# Altium footprint library 151033RS03000.PcbLib: 1 footprints
Each footprint in its own frame and in the unit in brackets; x right, y up, seen from the top. Pads: shape width x height; smd on the part's side, far side on the other; paste and mask are expansions set on the pad; w line width, h text height; cw(c..) or ccw(c..) is an arc to the next point about the centre after c.
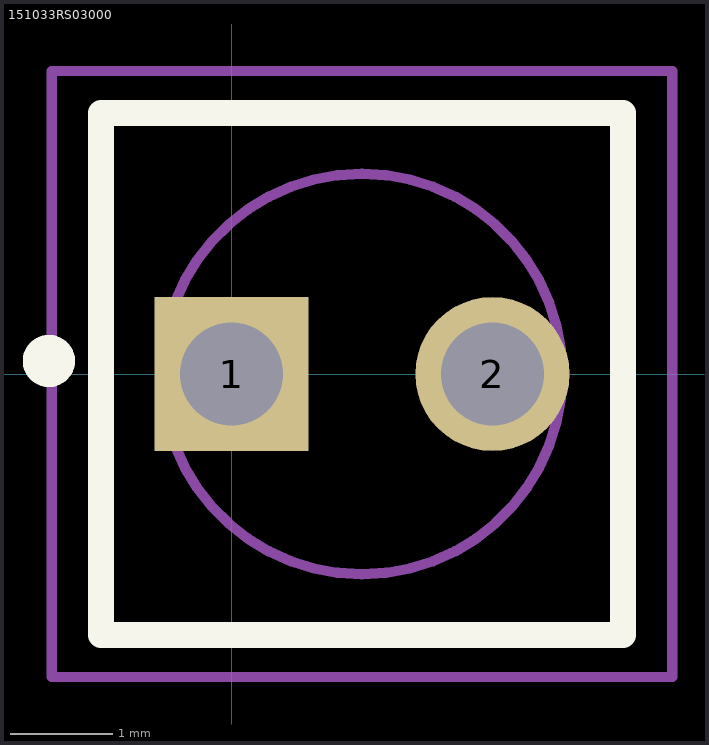
[diagram p0: the footprint, top view; thin cyan lines are the x and y axes]

## 151033RS03000 [mm]
pads (2):
  rect 1.5x1.5 hole 1: 1(0,0)
  round 1.5 hole 1: 2(2.54,0)
Top Overlay:
  circle w0.254: c-1.778,0.127 r0.127
  lines w0.254: -1.27,-2.54 3.81,-2.54 3.81,2.54 -1.27,2.54 -1.27,-2.54
Mechanical 15:
  lines w0.1: -0.68,0 ccw(c1.27,0) 3.22,0 ccw(c1.27,0) -0.68,0
Mechanical 20:
  lines w0.1: -1.75,-2.95 4.29,-2.95 4.29,2.95 -1.75,2.95 -1.75,-2.95